# EAGLE library part TL2575 (library 2000dB)
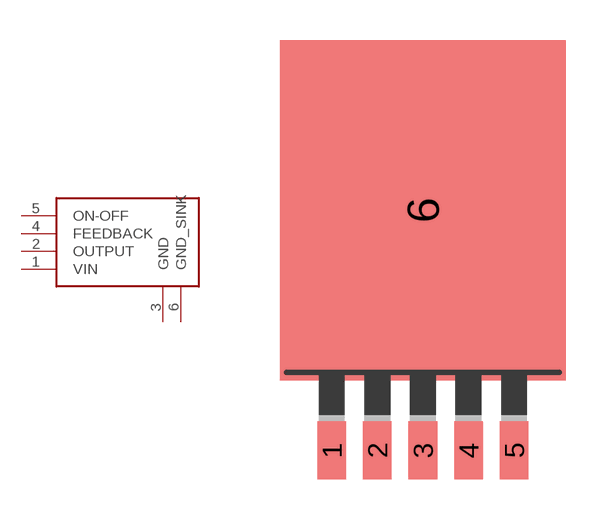
[diagram p2: symbol with the pads of TO-263-5; footprint TO-263-5]

Designator prefix -

## TL2575  [TO-263-5]
1  VIN
2  OUTPUT
3  GND
4  FEEDBACK
5  ON-OFF
6  GND_SINK

## Footprint TO-263-5 (pad centres in mm)
smd 1.067 x 2.159: 1 -3.404,-5.791; 2 -1.702,-5.791; 3 0,-5.791; 4 1.702,-5.791; 5 3.404,-5.791
smd 10.668 x 12.7: 6 0,3.175